# Altium schematic symbol library U.FL-R-SMT-1_10_.SchLib: 1 symbol
Pins are listed as number, name and electrical type; pins without a type are passive.

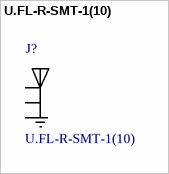
[diagram p0: symbol U.FL-R-SMT-1(10)]

## U.FL-R-SMT-1(10)
designator J?
/ U.FL Series 6 Ghz 50 Ohm Ultra-small SMT Coaxial Cable Receptacle /; MF: Hirose; MP: U.FL-R-SMT-1_10_; SnapEDA_Link: https://www.snapeda.com/parts/U.FL-R-SMT-1%2810%29/Hirose%20Electric%20Co%20Ltd/view-part/?ref=snap; Digi-Key_Part_Number: H11891CT-ND; Digi-Key_Purchase_URL: https://www.digikey.com/product-detail/en/hirose-electric-co-ltd/U.FL-R-SMT-1_10_/H11891CT-ND/2504612?utm_source=snapeda&utm_medium=aggregator&utm_campaign=symbol; Package: None; Value: *
footprint *HRS_U.FL-R-SMT-1(10)
pins: 1 GND, 2 SIG, 3 GND